# Altium footprint library 电源器件.PcbLib: 1 footprints
Each footprint in its own frame and in the unit in brackets; x right, y up, seen from the top. Pads: shape width x height; smd on the part's side, far side on the other; paste and mask are expansions set on the pad; w line width, h text height; cw(c..) or ccw(c..) is an arc to the next point about the centre after c.
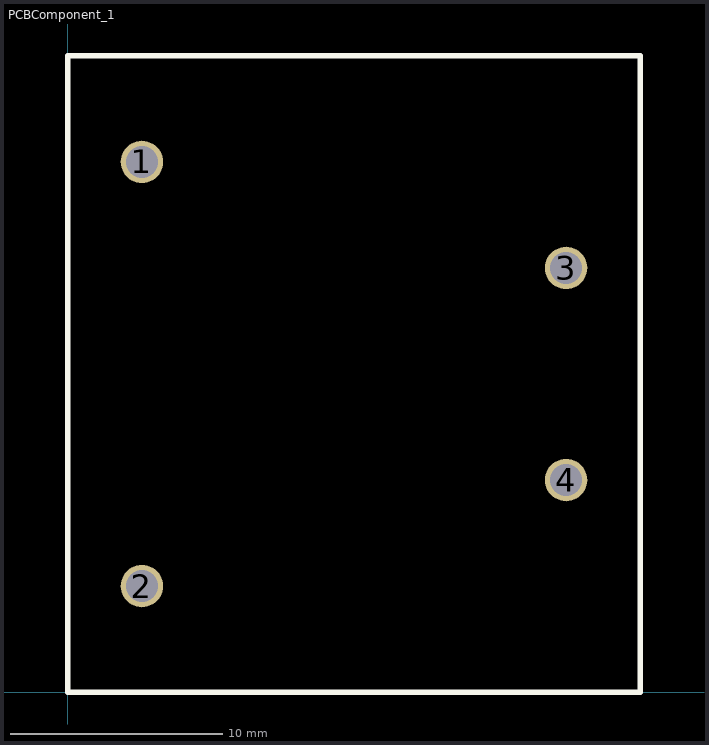
[diagram p0: the footprint, top view; thin cyan lines are the x and y axes]

## PCBComponent_1 [mm]
pads (4):
  round 2 hole 1.5: 1(3.5,25) 2(3.5,5) 3(23.5,20) 4(23.5,10)
Top Overlay:
  lines w0.254: 0,0 0,30 27,30 27,0 0,0